# Altium footprint library Res_Vishay_CRCW08050000Z0EA_eec_IPC_C.PcbLib: 1 footprints
Each footprint in its own frame and in the unit in brackets; x right, y up, seen from the top. Pads: shape width x height; smd on the part's side, far side on the other; paste and mask are expansions set on the pad; w line width, h text height; cw(c..) or ccw(c..) is an arc to the next point about the centre after c.
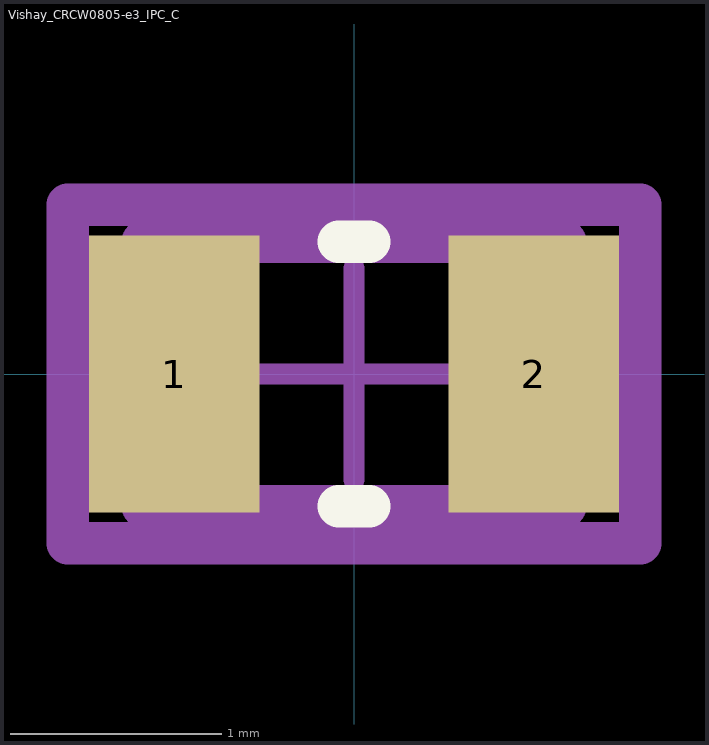
[diagram p0: the footprint, top view; thin cyan lines are the x and y axes]

## Vishay_CRCW0805-e3_IPC_C [mil]
pads (2):
  rect 31.75x51.5 smd paste+0 mask+0: 1(-33.5,0) 2(33.5,0)
Top Overlay:
  lines w7.87: -2.86,-24.61 2.86,-24.61 ; -2.86,24.61 2.86,24.61
Mechanical 10:
  lines w7.87: -53.31,-31.5 -53.31,31.5 53.31,31.5 53.31,-31.5 -53.31,-31.5
  text ".Designator" at 0,7.38 h39.37
Mechanical 12:
  lines w7.87: -39.37,-24.61 -39.37,24.61 39.37,24.61 39.37,-24.61 -39.37,-24.61
Mechanical 15:
  lines w3.94: -19.68,0 19.68,0 ; 0,-19.68 0,19.68
  lines w7.87: -53.31,-31.5 -53.31,31.5 53.31,31.5 53.31,-31.5 -53.31,-31.5
3D body "Res_Vishay_CRCW08050000Z0EA_eec.STEP": height 10, standoff 0, extent -53.31,-31.5 53.31,31.5